# Altium schematic symbol library SCH - POWER - SWITCHMODE - TI TPS65136_RTE_16.SchLib: 1 symbol
Pins are listed as number, name and electrical type; pins without a type are passive.

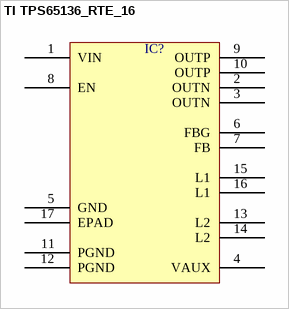
[diagram p0: symbol TI TPS65136_RTE_16]

## TI TPS65136_RTE_16
designator IC?  (value not drawn)
pins: 1 VIN, 2 OUTN, 3 OUTN, 4 VAUX, 5 GND, 6 FBG, 7 FB, 8 EN, 9 OUTP, 10 OUTP, 11 PGND, 12 PGND, 13 L2, 14 L2, 15 L1, 16 L1, 17 EPAD